# Altium footprint library SSOP48.PcbLib: 1 footprints
Each footprint in its own frame and in the unit in brackets; x right, y up, seen from the top. Pads: shape width x height; smd on the part's side, far side on the other; paste and mask are expansions set on the pad; w line width, h text height; cw(c..) or ccw(c..) is an arc to the next point about the centre after c.
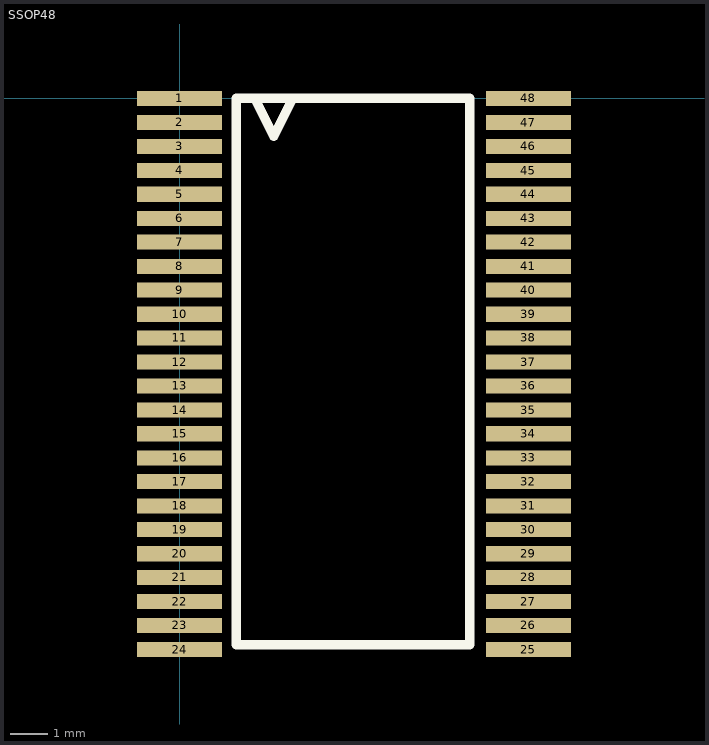
[diagram p0: the footprint, top view; thin cyan lines are the x and y axes]

## SSOP48 [mil]
pads (48):
  rect 89x15.73 smd: 1(0,0) 2(0,-25) 3(0,-50) 4(0,-75) 5(0,-100) 6(0,-125.2) 7(0,-150) 8(0,-175.2) 9(0,-200) 10(0,-225.2) 11(0,-250) 12(0,-275.2) 13(0,-300) 14(0,-325.2) 15(0,-350) 16(0,-375.2) 17(0,-400) 18(0,-425.2) 19(0,-450) 20(0,-475.2) 21(0,-500) 22(0,-525.2) 23(0,-550) 24(0,-575.2) 25(364.17,-575.2) 26(364.17,-550) 27(364.17,-525.2) 28(364.17,-500) 29(364.17,-475.2) 30(364.17,-450) 31(364.17,-425.2) 32(364.17,-400) 33(364.17,-375.2) 34(364.17,-350) 35(364.17,-325.2) 36(364.17,-300) 37(364.17,-275.2) 38(364.17,-250) 39(364.17,-225.2) 40(364.17,-200) 41(364.17,-175.2) 42(364.17,-150) 43(364.17,-125.2) 44(364.17,-100) 45(364.17,-75.2) 46(364.17,-50) 47(364.17,-25.2) 48(364.17,0)
Top Overlay:
  lines w10: 59,-570.33 302.87,-570.33 302.87,0 59,0 59,-570.33 ; 78.67,0 118,0 98.33,-39.33 78.67,0
3D body: height 104.33, standoff -0.04, extent -23.72,-602.92 385.72,27